# EAGLE library part 68611114122 (library Wuerth_Elektronik_eiCan_03_ZIF_Connectors_Flat_Flexible_Cable)
WR-FPC 1.00mm SMT ZIF Horizontal Top Contact, 11 Pins
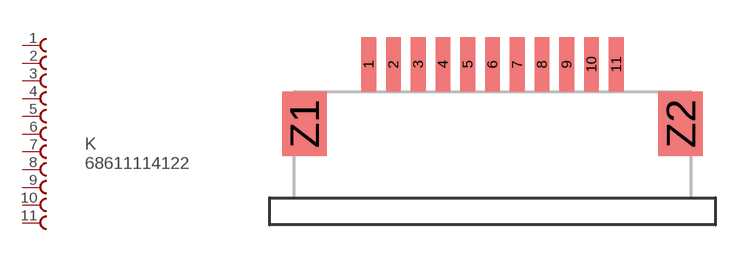
[diagram p59: symbol with the pads of 68611114122; footprint 68611114122]

Designator prefix K

## 68611114122  [68611114122]
1  1  pas
2  2  pas
3  3  pas
4  4  pas
5  5  pas
6  6  pas
7  7  pas
8  8  pas
9  9  pas
10  10  pas
11  11  pas

## Footprint 68611114122 (pad centres in mm)
WR-FPC 1.00mm SMT ZIF Horizontal Top Contact, 11 Pins
smd 0.6 x 2.2: 1 -8.5,1.1; 2 -7.5,1.1; 3 -6.5,1.1; 4 -5.5,1.1; 5 -4.5,1.1; 6 -3.5,1.1; 7 -2.5,1.1; 8 -1.5,1.1; 9 -0.5,1.1; 10 0.5,1.1; 11 1.5,1.1
smd 1.8 x 2.6: Z1 -11.1,-1.3; Z2 4.1,-1.3